# Altium footprint library molex-usb.PcbLib: 4 footprints
Each footprint in its own frame and in the unit in brackets; x right, y up, seen from the top. Pads: shape width x height; smd on the part's side, far side on the other; paste and mask are expansions set on the pad; w line width, h text height; cw(c..) or ccw(c..) is an arc to the next point about the centre after c.
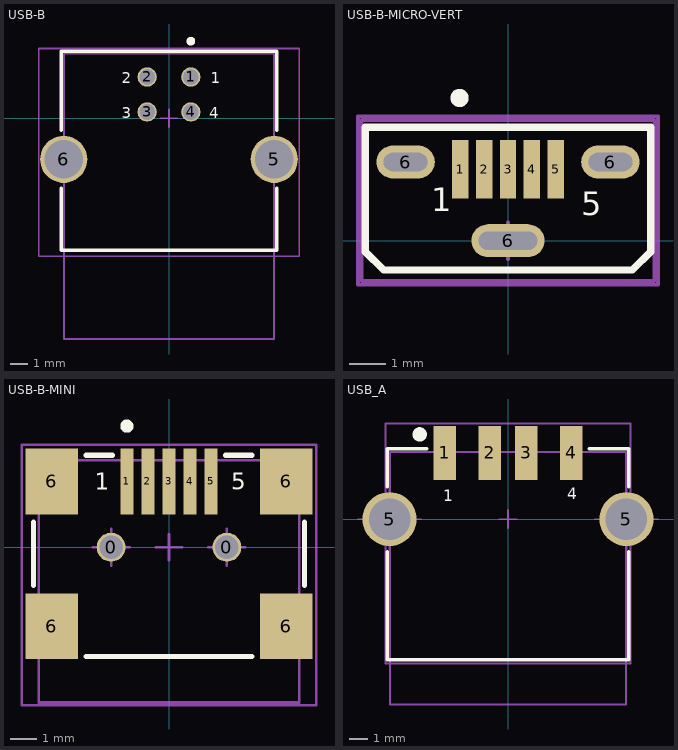
[diagram p0: the footprints below, top view; thin cyan lines are the x and y axes]

## USB-B [mm] "USB Conn. Series B, 4P, R/A, THRU HOLE, W/ BACK SHELL"
height 11
pads (6):
  round 1.1 hole 0.9: 1(1.25,2.355) 2(-1.25,2.355) 3(-1.25,0.355) 4(1.25,0.355)
  round 2.7 hole 2.2: 5(6.02,-2.355) 6(-6.02,-2.355)
Top Overlay:
  circle w0.25: c1.25,4.4 r0.125
  lines w0.2: -6.15,-4 -6.15,-7.555 6.15,-7.555 6.15,-4 ; -6.15,-0.7 -6.15,3.825 6.15,3.825 6.15,-0.7
  text "2" at -2.7,2 h0.64
  text "3" at -2.7,0 h0.64
  text "4" at 2.3,0 h0.64
  text "1" at 2.4,2 h0.64
Mechanical 13:
  lines w0.1: -6.52,-2.355 -5.52,-2.355 ; -6.02,-2.855 -6.02,-1.855 ; -0.5,0 0.5,0 ; 0,-0.5 0,0.5 ; -6,-12.625 6,-12.625 6,3.675 -6,3.675 -6,-12.625
Mechanical 15:
  lines w0.1: -7.45,-7.9 7.45,-7.9 7.45,3.975 -7.45,3.975 -7.45,-7.9
  text ".Designator" at -2.3,-1.525 h0.5
3D body: height 11.31, standoff -3.33, extent -7.549,-12.625 7.549,3.775

## USB-B-MICRO-VERT [mm] "Mini USB Conn. B Type, Vertical SMT"
height 4
pads (8):
  rect 0.45x1.6 smd: 1(-1.3,1.95) 2(-0.65,1.95) 3(0,1.95) 4(0.65,1.95) 5(1.3,1.95)
  rrect100% 1.6x0.9 hole 0.5 slot 1.2 at 0 deg: 6(-2.8,2.15) 6(2.8,2.15)
  rrect100% 2x0.9 hole 0.5 slot 1.6 at 0 deg: 6(0,0)
Top Overlay:
  circle w0.25: c-1.325,3.9 r0.125
  lines w0.2: -3.9,-0.3 -3.4,-0.8 3.4,-0.8 3.9,-0.3 3.9,3.1 -3.9,3.1 -3.9,-0.3
  text "5" at 2,0.7 h0.64
  text "1" at -2.1,0.8 h0.64
Mechanical 13:
  lines w0.1: -0.5,0 0.5,0 ; 0,-0.5 0,0.5 ; -4,-1.1 -4,3.3 4,3.3 4,-1.1 -4,-1.1
Mechanical 15:
  lines w0.1: -4.1,-1.2 -4.1,3.4 4.1,3.4 4.1,-1.2 -4.1,-1.2
  text ".Designator" at -2.8,0.9 h0.5
3D body: height 7.43, standoff -2.37, extent -4.025,-1.15 4,3.3

## USB-B-MINI [mm] "Mini USB Conn. B Type, R/A, SMT"
height 4
pads (11):
  round 1.1 hole 0.9 unplated: 0(-2.2,0) 0(2.2,0)
  rect 0.5x2.5 smd: 1(-1.6,2.5) 2(-0.8,2.5) 3(0,2.5) 4(0.8,2.5) 5(1.6,2.5)
  rect 2x2.5 smd: 6(-4.45,-3) 6(-4.45,2.5) 6(4.45,-3) 6(4.45,2.5)
Top Overlay:
  circle w0.25: c-1.6,4.6 r0.125
  lines w0.2: -5.15,-1.45 -5.15,0.95 ; -3.15,-4.15 3.15,-4.15 ; -3.15,3.5 -2.15,3.5 ; 2.15,3.5 3.15,3.5 ; 5.15,-1.45 5.15,0.95
  text "5" at 2.375,2.175 h0.64
  text "1" at -2.825,2.175 h0.64
Mechanical 13:
  lines w0.1: -2.9,0 -1.5,0 ; -2.2,-0.7 -2.2,0.7 ; -0.5,0 0.5,0 ; 0,-0.5 0,0.5 ; 1.5,0 2.9,0 ; 2.2,-0.7 2.2,0.7 ; -4.95,-5.9 -4.95,3.3 4.95,3.3 4.95,-5.9 -4.95,-5.9
Mechanical 15:
  lines w0.1: -5.6,-6 -5.6,3.9 5.6,3.9 5.6,-6 -5.6,-6
  text ".Designator" at -2.3,-1.525 h0.5
3D body: height 4.15, standoff -0.93, extent -4.95,-5.9 4.95,3.3

## USB_A [mm] "USB Conn. A Type, R/A, SMT"
height 7.01
pads (6):
  rect 1.25x3 smd: 1(-3.5,3.68) 2(-1,3.68) 3(1,3.68) 4(3.5,3.68)
  round 3 hole 2.3: 5(-6.57,0) 5(6.57,0)
Top Overlay:
  circle w0.4: c-4.9,4.7 r0.2
  lines w0.2: -6.7,-1.8 -6.7,-7.8 6.7,-7.8 6.7,-1.8 ; -6.7,1.8 -6.7,3.9 -4.5,3.9 ; 4.5,3.9 6.7,3.9 6.7,1.8
  text "1" at -3.6,1 h0.64
  text "4" at 3.3,1.1 h0.64
Mechanical 13:
  lines w0.1: -8.32,0 -4.82,0 ; -6.57,-1.75 -6.57,1.75 ; -0.5,0 0.5,0 ; 0,-0.5 0,0.5 ; 4.82,0 8.32,0 ; 6.57,-1.75 6.57,1.75 ; -6.55,-10.275 6.55,-10.275 6.55,3.725 -6.55,3.725 -6.55,-10.275
Mechanical 15:
  lines w0.1: -6.8,-8 6.8,-8 6.8,5.3 -6.8,5.3 -6.8,-8
  text ".Designator" at -2.3,-1.525 h0.5
3D body: height 7.67, standoff -3.6, extent -8.116,-10.25 8.116,4.91